# Altium footprint library MIC29302AWU.PcbLib: 1 footprints
Each footprint in its own frame and in the unit in brackets; x right, y up, seen from the top. Pads: shape width x height; smd on the part's side, far side on the other; paste and mask are expansions set on the pad; w line width, h text height; cw(c..) or ccw(c..) is an arc to the next point about the centre after c.
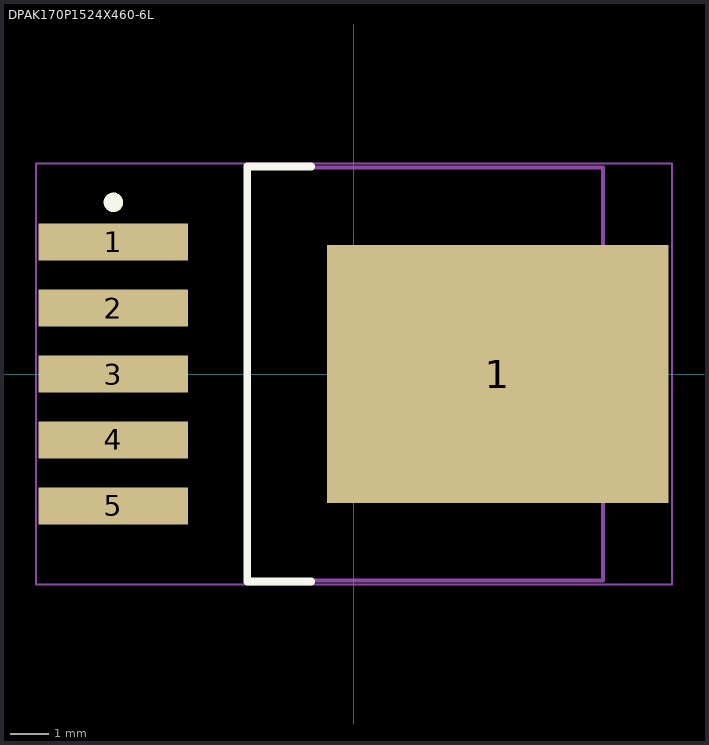
[diagram p0: the footprint, top view; thin cyan lines are the x and y axes]

## DPAK170P1524X460-6L [mm] "D2-PAK, 6-Pads, Body 7,68x8,69mm (max), IPC High Density"
height 4.6
pads (6):
  rect 3.85x0.95 smd: 1(-6.2,3.4) 2(-6.2,1.7) 3(-6.2,0) 4(-6.2,-1.7) 5(-6.2,-3.4)
  rect 8.8x6.65 smd: 1(3.7,0)
Top Overlay:
  circle w0.25: c-6.2,4.425 r0.125
  lines w0.2: -1.1,-5.35 -2.75,-5.35 -2.75,5.35 -1.1,5.35
Mechanical 13:
  lines w0.1: -2.75,-5.325 6.42,-5.325 6.42,5.325 -2.75,5.325 -2.75,-5.325
Mechanical 15:
  lines w0.05: -8.2,-5.425 8.2,-5.425 8.2,5.425 -8.2,5.425 -8.2,-5.425
  lines w0.1: -0.5,0 0.5,0 ; 0,-0.5 0,0.5
3D body "DPAK170P1524X460-6L.step": height 4.6, standoff 0, extent -7.298,-5.325 7.942,5.325